# Altium integrated library TUBE.IntLib: 1 symbol
Pins are listed as number, name and electrical type; pins without a type are passive.

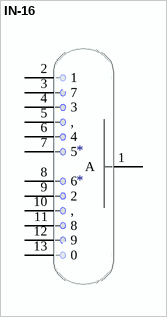
[diagram p0: symbol IN-16]

## IN-16
designator *
footprint IN_16_tube
pins: 1 A, 2 1, 3 7, 4 3, 5 ,, 6 4, 7 5, 8 6, 9 2, 10 ,, 11 8, 12 9, 13 0